# Altium footprint library ZF5S-10-01-X-WT.PcbLib: 1 footprints
Each footprint in its own frame and in the unit in brackets; x right, y up, seen from the top. Pads: shape width x height; smd on the part's side, far side on the other; paste and mask are expansions set on the pad; w line width, h text height; cw(c..) or ccw(c..) is an arc to the next point about the centre after c.
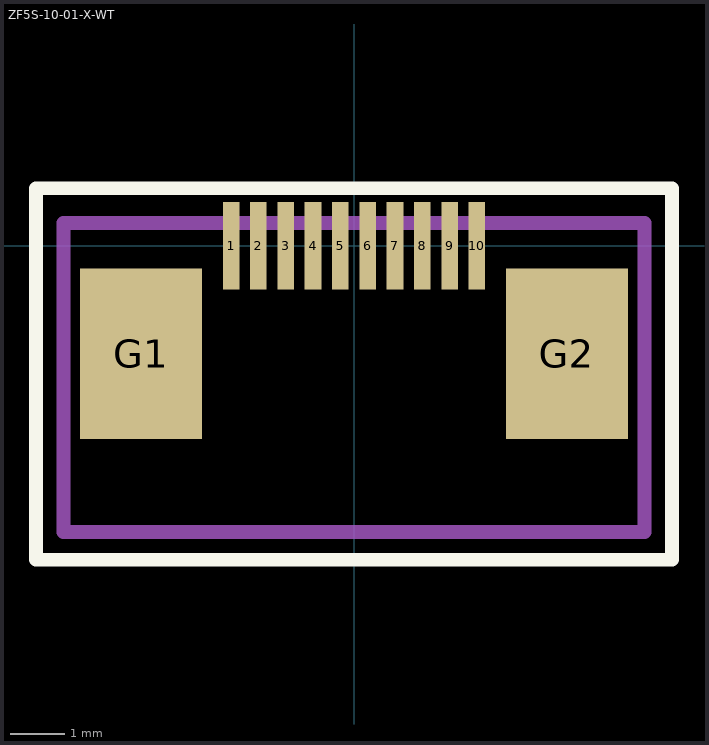
[diagram p0: the footprint, top view; thin cyan lines are the x and y axes]

## ZF5S-10-01-X-WT [mil]
pads (12):
  rect 12x63 smd mask+2: 1(-88.65,0) 2(-68.95,0) 3(-49.25,0) 4(-29.55,0) 5(-9.85,0) 6(9.85,0) 7(29.55,0) 8(49.25,0) 9(68.95,0) 10(88.65,0)
  rect 88x123 smd mask+2: G1(-153.5,-78) G2(153.5,-78)
Top Overlay:
  lines w10: -229.5,-226.5 229.5,-226.5 229.5,41.5 -229.5,41.5 -229.5,-226.5
Mechanical 1:
  lines w10: -209.5,-206.5 209.5,-206.5 209.5,16.5 -209.5,16.5 -209.5,-206.5
  text "J1" at -19.57,-98 h30
3D body "ZF5S-10-01-T-WT.stp": height 1.97, standoff -80.71, extent -209.65,-210 209.65,13.23